# Altium schematic symbol library Schlib2.SchLib: 27 symbols
Pins are listed as number, name and electrical type; pins without a type are passive.

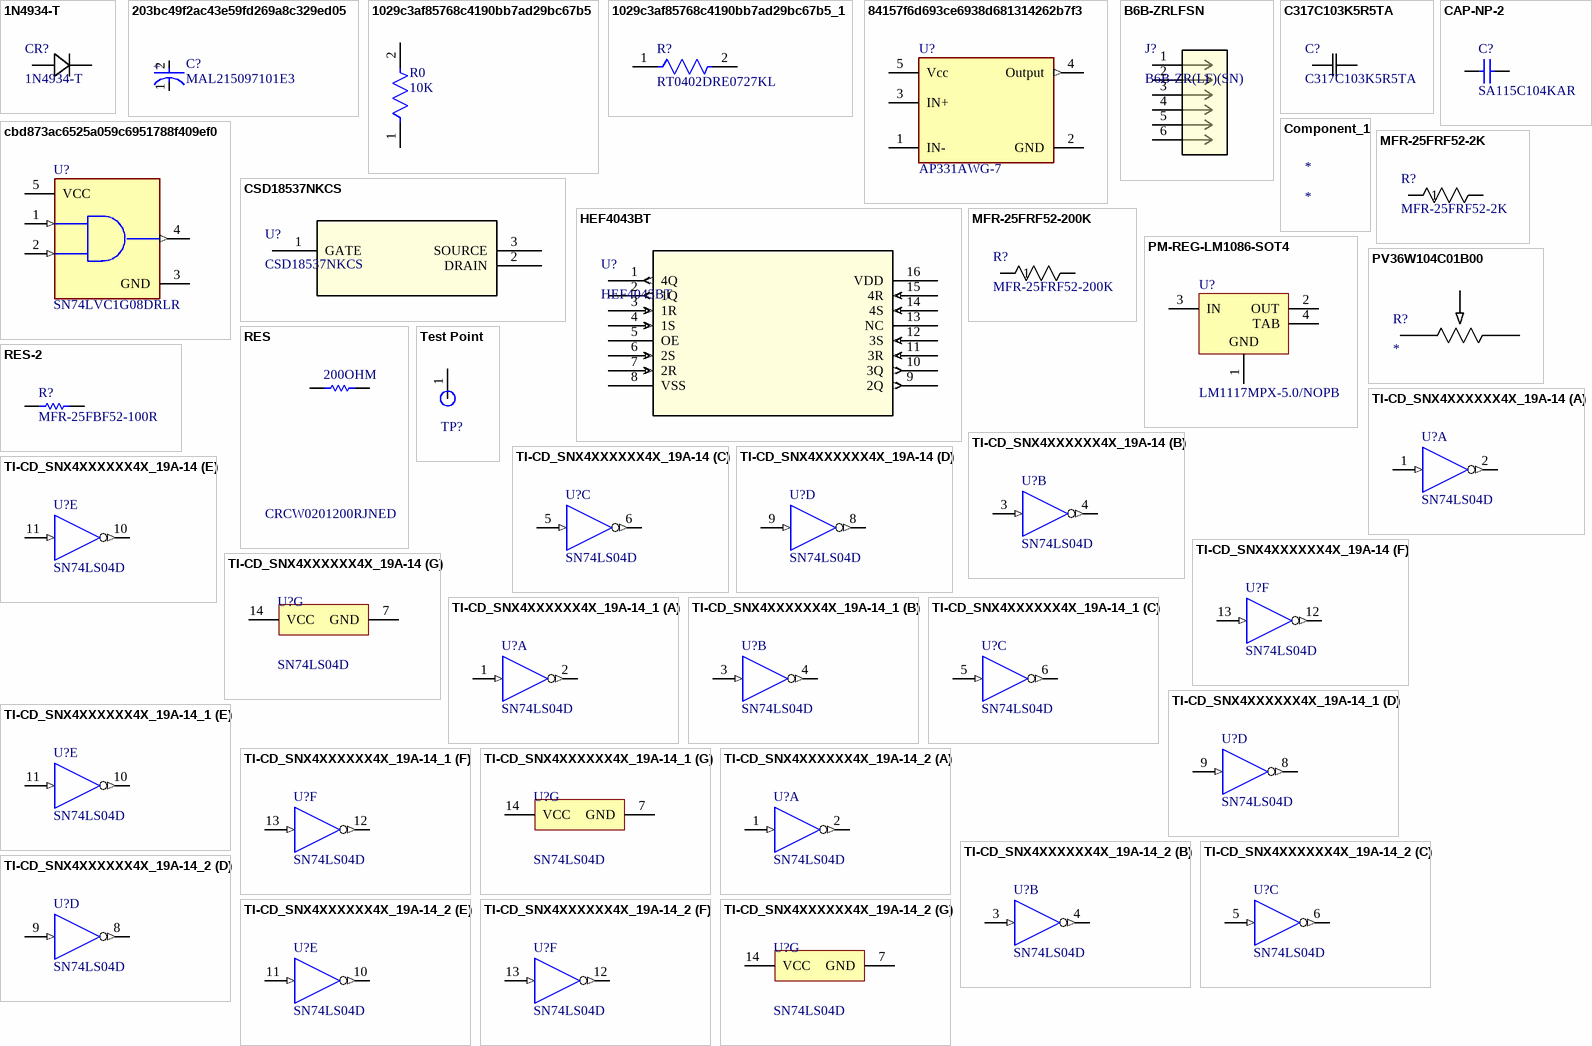
[diagram p0: symbols 1N4934-T to TI-CD_SNX4XXXXXX4X_19A-14_2]

## 1N4934-T
designator CR?
DIODE GEN PURP 100V 1A DO41; Mfr_Name: Diodes Inc; Type: DEV; Copyright: Copyright (C) 2023 Ultra Librarian. All rights reserved.; Manufacturer_Part_Number: 1N4934-T; Digi-Key_Part_Number_1: 1N4934DICT-ND; Digi-Key_Part_Number_2: 1N4934DITR-ND; RefDes: RefDes
footprint DO-41_DIO
pins: 1, 2

## 203bc49f2ac43e59fd269a8c329ed05
designator C?, comment MAL215097101E3
CAP ALUM 100UF 20% 50V SMD; Impedance: 240mR; Dissipation Factor: 0.12%; Ripple Current (AC): 490mA; Dielectric Material: Aluminium; Life (Hours): 3000Hour; Voltage Rating (DC): 50V; Capacitance: 100uF; Voltage Rating: 50V; Max Operating Temperature: 105°C; Width: 10mm; Construction: Cylindrical; ESR (Equivalent Series Resistance): 240mR; Radiation Hardening: No; Length: 10mm; Case/Package: Radial; Packaging: Tape and Reel; Min Operating Temperature: -55°C; Package Quantity: 500; RoHS Compliant: Yes; Series: Automotive, AEC-Q200, 150 CRZ; Ripple Current: 490mA; Height: 10mm; Tolerance: 20%; Diameter: 10mm; Termination: SMD/SMT
footprint FP-MAL2150-1010-MFG
pins: 1 C, 2 A
text: +

## 1029c3af85768c4190bb7ad29bc67b5
designator R0, comment 10K
RES 10K OHM 1% 0.6W AXIAL; Temperature Coefficient: 50ppm/°C; Resistance: 10kR; Mount: Through Hole; Radiation Hardening: No; Tolerance: 1%; Construction: Cylindrical; Contact Plating: Tin; Case/Package: Conformal; Resistor Type: Metal Film; Min Operating Temperature: -55°C; Military Standard: Not; Lead Free: Lead Free; Diameter: 2.4mm; Termination: Axial; Max Operating Temperature: 155°C; RoHS Compliant: Yes; Packaging: Ammo Pack; Length: 6.3mm
footprint FP-MF0207-MFG
pins: 1, 2

## 1029c3af85768c4190bb7ad29bc67b5_1
designator R?, comment RT0402DRE0727KL
RES SMD 27K OHM 0.5% 1/16W 0402; Manufacturer: Yageo; Temperature Coefficient: 50 ppm/°C; Power Rating: 0.063W; Description: RT0402 27KΩ 0.063W 50 ppm/°C 0.50%; Voltage Rating: 50V; Tolerance: 0.005; Resistance: 27KΩ; Value: 27KΩ; Temperature: -55°C to +155°C; ComponentLink2Description: Datasheet; Footprint Url: http://www.yageo.com/exep/pages/download/literatures/PYu-R_Mount_10.pdf; Composition: Thin Film; Manufacturer Part Number: RT0402DRE0727KL; Device Class L1: Passive Components; Octopart: https://octopart.com/rt0402dre0727kl-yageo-1275250; Device Class L2: Resistors; ComponentLink2URL: http://www.yageo.com/documents/recent/PYu-RT_1-to-0.01_RoHS_L_9.pdf; Category: Res; Temperature Range Low: -55°C; Temperature Range High: +155°C; Series: RT; RoHS: TRUE; Package: RT0402; Lead Free: Yes; Digikey Description: RES SMD 27K OHM 0.5% 1/16W 0402; Device Class L3: Chip SMD Resistors; Automotive: No; Height: 0.35mm; Ipc Land Pattern Name: RESC10050X30
footprint FP-RT0402-MFG
footprint FP-RT0402-IPC_C
footprint FP-RT0402-IPC_B
footprint FP-RT0402-IPC_A
pins: 1, 2

## 84157f6d693ce6938d681314262b7f3
designator U?, comment AP331AWG-7
IC COMPARATOR SGL DIFF SOT-25; Manufacturer: Diodes Inc.; Standoff Height: 0.013mm; Min Dual Supply Voltage: 1V; Input Offset Voltage: 4mV; Min Supply Voltage: 2V; Output Current Per Channel: 16mA; Number Of Channels: 1; Voltage Gain: 200V/mV; Max Supply Voltage: 36V; Input Bias Current: 0.15uA; Max Junction Temp: +150°C; Nominal Supply Current: 0.4-1mA; Max Dual Supply Voltage: 18V; Response Time: 300ns; Category: IC; Temperature Range High: +70°C; Automotive: No; Lead Free: Yes; Digikey Description: IC COMPARATOR SGL DIFF SOT-25; Ambient Temperature Range Low: 0°C; Octopart: https://octopart.com/ap331awg-7-diodes+inc.-12688108; Manufacturer Part Number: AP331AWG-7; Device Class L2: Linear ICs; RoHS: TRUE; Package: SOT25; ComponentLink2Description: Datasheet; Temperature: 0°C to +70°C; Height: 1.4mm; Device Class L3: Comparators; Temperature Range Low: 0°C; ComponentLink2URL: https://www.diodes.com/assets/Datasheets/AP331A.pdf; Device Class L1: Integrated Circuits (ICs); Mouser Description: Analog Comparators 2V-36V 2.5mA 2V-36V 2.5mA; Ambient Temperature Range High: +70°C; Footprint Url: https://www.diodes.com/assets/Package-Files/SOT25.pdf
footprint FP-SOT25-MFG
footprint FP-SOT25-IPC_C
footprint FP-SOT25-IPC_B
footprint FP-SOT25-IPC_A
pins: 1 IN- (hiz), 2 GND (power), 3 IN+ (hiz), 4 Output (out), 5 Vcc (power)

## B6B-ZRLFSN
designator J?, comment B6B-ZR(LF)(SN)
CONN HEADER VERT 6POS 1.5MM; Mfr_Name: JST; Copyright: Copyright (C) 2023 Ultra Librarian. All rights reserved.; Manufacturer_Part_Number: B6B-ZR(LF)(SN); Digi-Key_Part_Number_1: 455-1661-ND; RefDes: RefDes; Type: DEV
footprint CONN_B6B-ZR_JST
pins: 1, 2, 3, 4, 5, 6

## C317C103K5R5TA
designator C?
CAP CER 10000PF 50V X7R RADIAL; Mfr_Name: Kemet; Type: DEV; Copyright: Copyright (C) 2023 Ultra Librarian. All rights reserved.; Manufacturer_Part_Number: C317C103K5R5TA; Digi-Key_Part_Number_1: 399-4206-ND; RefDes: RefDes
footprint CAP_C317C_MR_X7R_KEM
pins: 1, 2

## CAP-NP-2
designator C?, comment SA115C104KAR
Axial Leads / SpinGuard(R), Ceramic Capacitor, 0.10 uF +/- 10%, 50V, -55 to 125 degC, 2-Pin THD, RoHS, Tape and Reel; Manufacturer: AVX; Other Names: 478-3151-1; Catalog Drawings: SASeries_4.32x3.05; Capacitance: 0.1µF; Temperature Coefficient: X7R; Online Catalog: SpinGuard®SASeries; Product Training Modules: ComponentSolutionsforSmartMeterApplications; Category: Capacitors; Package Description: 2-Pin Axial Lead, Dia 3.05 mm, Body Length 4.32 mm; Standard Package: 1; Mounting Technology: ThroughHole; Ratings: -; Datasheet Version: 06/2007; Voltage - Rated: 50V; Tolerance: ±10%; Package Reference: SA115C104KAR; Packaging: -; Lead Style: -; Size / Dimension: 0.120"Diax0.170"L(3.05mmx4.32mm); Mounting Type: ThroughHole; Operating Temperature: -55°C~125°C; Datasheet URL: https://datasheet.ciiva.com/27051/1074183-27051369.pdf; Applications: GeneralPurpose; Thickness (Max): -; Lead Spacing: -; Height - Seated (Max): -; Family: CeramicCapacitors; Package / Case: Axial; Features: -; Series: SpinGuard®SA; Manufacturer URL: http://www.avx.com/
footprint AVX-SA115C104KAR (THD, 2-Leads, Dia 3.05mm, Body Length 4.32mm)
pins: 1, 2

## cbd873ac6525a059c6951788f409ef0
designator U?, comment SN74LVC1G08DRLR
IC GATE AND 1CH 2-INP SOT5; Manufacturer: Texas Instruments; Number Of Inputs: 2; Nominal Supply Current: 10uA; Max Junction Temp: +150°C; Max Supply Voltage: 5.5V; Number Of Circuits: 1; Min Supply Voltage: 1.65V; Propagation Delay: 5ns; Standoff Height: 0mm; ComponentLink2Description: Datasheet; Device Class L1: Integrated Circuits (ICs); Temperature: -40°C to +125°C; Ambient Temperature Range Low: -40°C; Digikey Description: IC GATE AND 1CH 2-INP SOT5; RoHS: TRUE; Device Class L2: Logic ICs; Height: 0.6mm; Logic Function Desc: AND; Package: DRL0005A; Manufacturer Part Number: SN74LVC1G08DRLR; Lead Free: Yes; Category: IC; ComponentLink2URL: http://www.ti.com/lit/ds/symlink/sn74lvc1g08.pdf; Mouser Description: Logic Gates Sngl 2 Inpt Pos AND Gate; Octopart: https://octopart.com/sn74lvc1g08drlr-texas+instruments-464956; Device Class L3: Logic Gates; Number Of Outputs: 1; Automotive: No; Ambient Temperature Range High: +125°C; Temperature Range High: +125°C; Temperature Range Low: -40°C
footprint FP-DRL0005A-MFG
pins: 1 A (in), 2 B (in), 3 GND (power), 4 Y (out), 5 VCC (power)

## Component_1
designator *

## CSD18537NKCS
designator U?
No Description Available; Mfr_Name: Texas Instruments; Copyright: Copyright (C) 2023 Ultra Librarian. All rights reserved.; Manufacturer_Part_Number: CSD18537NKCS; Digi-Key_Part_Number_1: 296-36456-5-ND; Digi-Key_Part_Number_2: 296-36456-5-NDR; Digi-Key_Part_Number_3: 296-CSD18537NKCS-ND; RefDes: RefDes; Type: DEV
footprint KCS3_TEX
pins: 1 GATE, 2 DRAIN, 3 SOURCE

## HEF4043BT
designator U?
IC R/S LATCH 3-STATE QUAD 16SOIC; Mfr_Name: NXP; Copyright: Copyright (C) 2023 Ultra Librarian. All rights reserved.; Manufacturer_Part_Number: HEF4043BT; Digi-Key_Part_Number_1: 568-11395-2-ND; Digi-Key_Part_Number_2: 568-11395-1-ND; Digi-Key_Part_Number_3: 568-11395-6-ND; Digi-Key_Part_Number_4: 568-11333-5-ND; RefDes: RefDes; Type: DEV
footprint SOT109-1_NXP
pins: 1 4Q (out), 2 1Q (out), 3 1R (in), 4 1S (in), 5 OE, 6 2S (in), 7 2R (in), 8 VSS (power), 9 2Q (out), 10 3Q (out), 11 3R (in), 12 3S (in), 13 NC, 14 4S (in), 15 4R (in), 16 VDD (power)

## MFR-25FRF52-2K
designator R?
No Description Available; Mfr_Name: Yageo; Copyright: Copyright (C) 2023 Ultra Librarian. All rights reserved.; Manufacturer_Part_Number: MFR-25FRF52-2K; Digi-Key_Part_Number_1: 2.00KXTR-ND; RefDes: RefDes; Type: DEV
footprint YAG_MF25_YAG
pins: 1, 2

## MFR-25FRF52-200K
designator R?
RES 200K OHM 1% 1/4W AXIAL; Mfr_Name: Yageo; Copyright: Copyright (C) 2023 Ultra Librarian. All rights reserved.; Manufacturer_Part_Number: MFR-25FRF52-200K; Digi-Key_Part_Number_1: 200KXTR-ND; RefDes: RefDes; Type: DEV
footprint YAG_MF25_YAG
pins: 1, 2

## PM-REG-LM1086-SOT4
designator U?, comment LM1117MPX-5.0/NOPB
800mA Low-Dropout Linear Regulator, 4-pin SOT-223, Pb-Free; Manufacturer: Texas Instruments; PowerWise: N; High-Reliability: Y; PackageTopMarking: XYTT*N06A; CompType: LDO IC; PartNumber: LM1117MPX-5.0/NOPB; Code_JEDEC: TO-261-AA; Code_IPC: SOT223-4; ComponentLink1URL: http://www.ti.com/general/docs/lit/getliterature.tsp?genericPartNumber=LM1117-N&fileType=pdf; PinCount: 4; PackageReference: DCY0004A; ComponentLink1Description: Datasheet URL; PackageDescription: Molded SOT-223, 6.50 x 3.56 x 1.6mm Body, 4 Lead, 2.3mm Pitch; RoHS: Y
footprint DCY0004A_L (SOT223, 4-Leads, Body 6.7x3.7mm, Pitch 2.3mm, IPC High Density)
footprint DCY0004A_M (SOT223, 4-Leads, Body 6.7x3.7mm, Pitch 2.3mm, IPC Low Density)
footprint DCY0004A_N (SOT223, 4-Leads, Body 6.7x3.7mm, Pitch 2.3mm, IPC Medium Density)
pins: 1 GND (power), 2 OUT (power), 3 IN (power), 4 TAB (power)

## PV36W104C01B00
designator R?
TRIMMER 100K OHM 0.5W PC PIN TOP; Mfr_Name: Bourns Electronics; Type: Trimmer Potentiometers; Digi-Key_Part_Number_1: 490-2876-ND
footprint POT_PV36W_BRN
pins: 1, 2, 3

## RES
designator 200OHM, comment CRCW0201200RJNED
Manufacturer: Vishay Dale; Part Number: CRCW0201200RJNED
footprint RESC0603X28X15ML05T05 (Chip Resistor, 2-Leads, Body 0.60x0.30mm, IPC Low Density)
footprint RESC0603X28X15NL05T05 (Chip Resistor, 2-Leads, Body 0.60x0.30mm, IPC Medium Density)
footprint RESC0603X28X15LL05T05 (Chip Resistor, 2-Leads, Body 0.60x0.30mm, IPC High Density)
pins: 1, 2
1 alternate drawing of the same symbol

## RES-2
designator R?, comment MFR-25FBF52-100R
Axial Resistor, 100 Ohm, +/- 1%, 0.25 W, -55 to 155 degC, 2-Pin THD, RoHS, Bulk; Voltage Rating: 250 V; Resistance: 4.75 kohm; Power Rating: 250 mW; Type (Resistor): Metal Film; Package Quantity: 200; RoHSCompliant: true; ComponentLink1URL: http://www.yageo.com/; ComponentLink1Description: Manufacturer URL; Case\Package: Axial; ComponentLink2Description: Datasheet; Length: 0.248 inch; PackageReference: MFR-25; Max Operating Temperature: 155 degC; Min Operating Temperature: -55 degC; DatasheetVersion: Apr-13; Mount: Through Hole; PackageDescription: 2-Pin Axial Lead, Dia 2.4 mm, Body Length 6.3 mm; Packaging: Bulk; Tolerance: 1%; ComponentLink2URL: http://www.yageo.com/documents/recent/Yageo%20LR_MFR_2013.pdf
footprint RESA60-630X240 (Axial Resistor, 2-Leads, Dia 2.4mm, Body Length 6.3mm)
pins: 1, 2

## Test Point
designator TP?  (value not drawn)  (no BOM)
footprint TP1 (60 mil radius test point)
pins: 1

## TI-CD_SNX4XXXXXX4X_19A-14
designator U?, comment SN74LS04D
Hex inverters, D0014A, TUBE; Manufacturer: Texas Instruments; Schmitt Trigger: No; Input Type: TTL; Bits(#): 6; Voltage(Nom)(V): 5; VCC(Max)(V): 5.25; Output Drive (IOL/IOH)(Max)(mA): -0.4/8; Technology Family: LS; tpd @ Nom Voltage(Max)(ns): 22; Output Type: CMOS; F @ Nom Voltage(Max)(Mhz): 35; Rating: Catalog; VCC(Min)(V): 4.75; ICC @ Nom Voltage(Max)(mA): 0.033; Generic Part Number: SN74LS04; DatasheetVersion: SDLS029C; PackageReference: D0014A; Code_JEDEC: MS-012; Operating Temperature Range(C): 0 to 70
footprint D0014A_N (SOIC, 14-Leads, Body 8.75x4mm, Pitch 1.27mm, IPC Medium Density)
footprint D0014A_L (SOIC, 14-Leads, Body 8.75x4mm, Pitch 1.27mm, IPC High Density)
footprint D0014A_M (SOIC, 14-Leads, Body 8.75x4mm, Pitch 1.27mm, IPC Low Density)
part A pins: 1 1A (in) "Input 1A", 2 ~{1Y} (out) "Output 1Y"
part B pins: 3 2A (in) "Input 2A", 4 ~{2Y} (out) "Output 2Y"
part C pins: 5 3A (in) "Input 3A", 6 ~{3Y} (out) "Output 3Y"
part D pins: 8 ~{4Y} (out) "Output 4Y", 9 4A (in) "Input 4A"
part E pins: 10 ~{5Y} (out) "Output 5Y", 11 5A (in) "Input 5A"
part F pins: 12 ~{6Y} (out) "Output 6Y", 13 6A (in) "Input 6A"
part G pins: 7 GND (power) "Ground Pin", 14 VCC (power) "Power Pin"

## TI-CD_SNX4XXXXXX4X_19A-14_1
designator U?, comment SN74LS04D
Hex inverters, D0014A, TUBE; Manufacturer: Texas Instruments; Schmitt Trigger: No; Input Type: TTL; Bits(#): 6; Voltage(Nom)(V): 5; VCC(Max)(V): 5.25; Output Drive (IOL/IOH)(Max)(mA): -0.4/8; Technology Family: LS; tpd @ Nom Voltage(Max)(ns): 22; Output Type: CMOS; F @ Nom Voltage(Max)(Mhz): 35; Rating: Catalog; VCC(Min)(V): 4.75; ICC @ Nom Voltage(Max)(mA): 0.033; Generic Part Number: SN74LS04; DatasheetVersion: SDLS029C; PackageReference: D0014A; Code_JEDEC: MS-012; Operating Temperature Range(C): 0 to 70
footprint D0014A_N (SOIC, 14-Leads, Body 8.75x4mm, Pitch 1.27mm, IPC Medium Density)
footprint D0014A_L (SOIC, 14-Leads, Body 8.75x4mm, Pitch 1.27mm, IPC High Density)
footprint D0014A_M (SOIC, 14-Leads, Body 8.75x4mm, Pitch 1.27mm, IPC Low Density)
part A pins: 1 1A (in) "Input 1A", 2 ~{1Y} (out) "Output 1Y"
part B pins: 3 2A (in) "Input 2A", 4 ~{2Y} (out) "Output 2Y"
part C pins: 5 3A (in) "Input 3A", 6 ~{3Y} (out) "Output 3Y"
part D pins: 8 ~{4Y} (out) "Output 4Y", 9 4A (in) "Input 4A"
part E pins: 10 ~{5Y} (out) "Output 5Y", 11 5A (in) "Input 5A"
part F pins: 12 ~{6Y} (out) "Output 6Y", 13 6A (in) "Input 6A"
part G pins: 7 GND (power) "Ground Pin", 14 VCC (power) "Power Pin"

## TI-CD_SNX4XXXXXX4X_19A-14_2
designator U?, comment SN74LS04D
Hex inverters, D0014A, TUBE; Manufacturer: Texas Instruments; Schmitt Trigger: No; Input Type: TTL; Bits(#): 6; Voltage(Nom)(V): 5; VCC(Max)(V): 5.25; Output Drive (IOL/IOH)(Max)(mA): -0.4/8; Technology Family: LS; tpd @ Nom Voltage(Max)(ns): 22; Output Type: CMOS; F @ Nom Voltage(Max)(Mhz): 35; Rating: Catalog; VCC(Min)(V): 4.75; ICC @ Nom Voltage(Max)(mA): 0.033; Generic Part Number: SN74LS04; DatasheetVersion: SDLS029C; PackageReference: D0014A; Code_JEDEC: MS-012; Operating Temperature Range(C): 0 to 70
footprint D0014A_N (SOIC, 14-Leads, Body 8.75x4mm, Pitch 1.27mm, IPC Medium Density)
footprint D0014A_L (SOIC, 14-Leads, Body 8.75x4mm, Pitch 1.27mm, IPC High Density)
footprint D0014A_M (SOIC, 14-Leads, Body 8.75x4mm, Pitch 1.27mm, IPC Low Density)
part A pins: 1 1A (in) "Input 1A", 2 ~{1Y} (out) "Output 1Y"
part B pins: 3 2A (in) "Input 2A", 4 ~{2Y} (out) "Output 2Y"
part C pins: 5 3A (in) "Input 3A", 6 ~{3Y} (out) "Output 3Y"
part D pins: 8 ~{4Y} (out) "Output 4Y", 9 4A (in) "Input 4A"
part E pins: 10 ~{5Y} (out) "Output 5Y", 11 5A (in) "Input 5A"
part F pins: 12 ~{6Y} (out) "Output 6Y", 13 6A (in) "Input 6A"
part G pins: 7 GND (power) "Ground Pin", 14 VCC (power) "Power Pin"

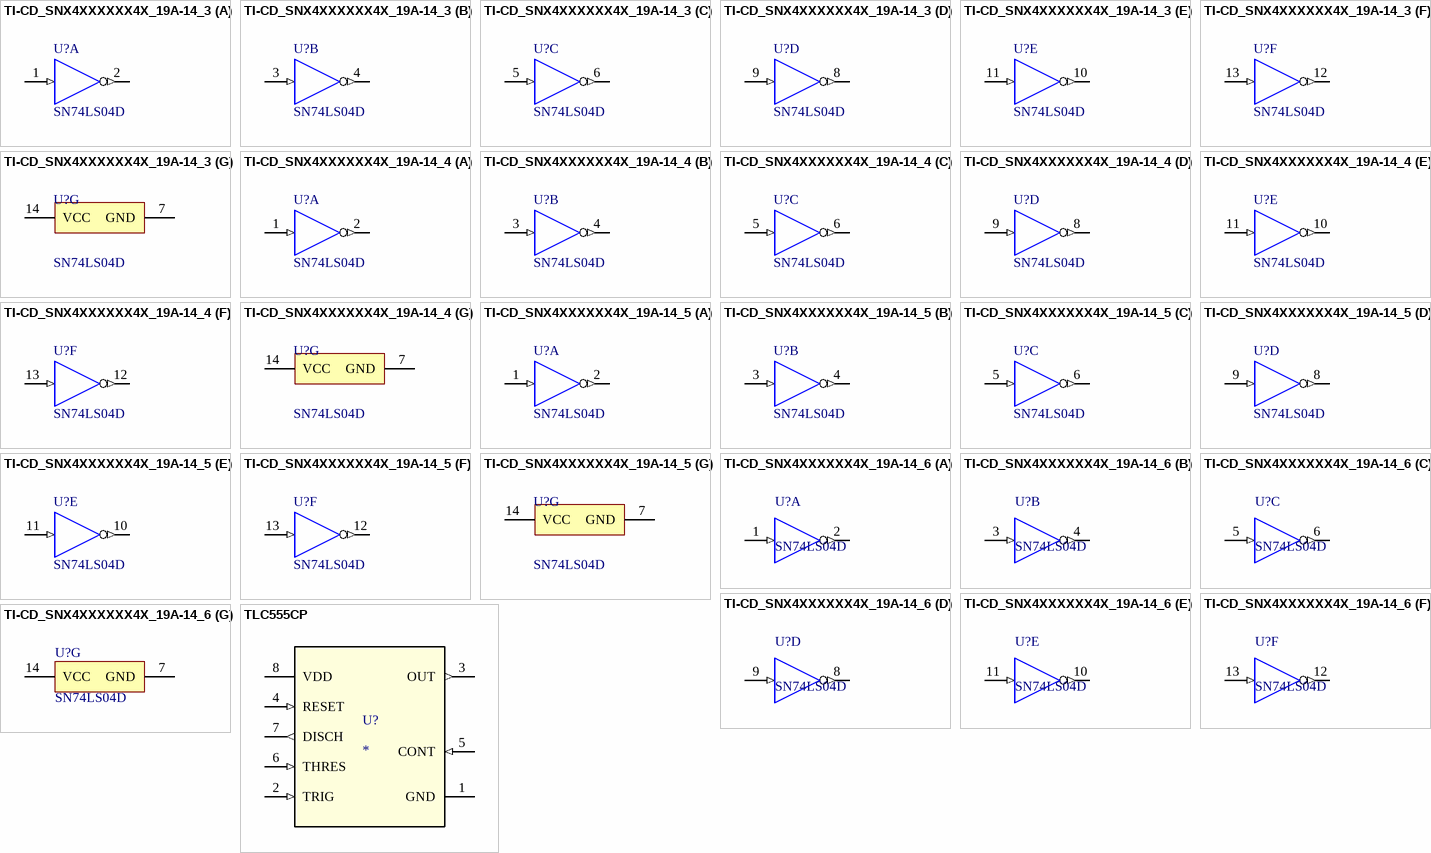
[diagram p1: symbols TI-CD_SNX4XXXXXX4X_19A-14_3 to TLC555CP]

## TI-CD_SNX4XXXXXX4X_19A-14_3
designator U?, comment SN74LS04D
Hex inverters, D0014A, TUBE; Manufacturer: Texas Instruments; Schmitt Trigger: No; Input Type: TTL; Bits(#): 6; Voltage(Nom)(V): 5; VCC(Max)(V): 5.25; Output Drive (IOL/IOH)(Max)(mA): -0.4/8; Technology Family: LS; tpd @ Nom Voltage(Max)(ns): 22; Output Type: CMOS; F @ Nom Voltage(Max)(Mhz): 35; Rating: Catalog; VCC(Min)(V): 4.75; ICC @ Nom Voltage(Max)(mA): 0.033; Generic Part Number: SN74LS04; DatasheetVersion: SDLS029C; PackageReference: D0014A; Code_JEDEC: MS-012; Operating Temperature Range(C): 0 to 70
footprint D0014A_N (SOIC, 14-Leads, Body 8.75x4mm, Pitch 1.27mm, IPC Medium Density)
footprint D0014A_L (SOIC, 14-Leads, Body 8.75x4mm, Pitch 1.27mm, IPC High Density)
footprint D0014A_M (SOIC, 14-Leads, Body 8.75x4mm, Pitch 1.27mm, IPC Low Density)
part A pins: 1 1A (in) "Input 1A", 2 ~{1Y} (out) "Output 1Y"
part B pins: 3 2A (in) "Input 2A", 4 ~{2Y} (out) "Output 2Y"
part C pins: 5 3A (in) "Input 3A", 6 ~{3Y} (out) "Output 3Y"
part D pins: 8 ~{4Y} (out) "Output 4Y", 9 4A (in) "Input 4A"
part E pins: 10 ~{5Y} (out) "Output 5Y", 11 5A (in) "Input 5A"
part F pins: 12 ~{6Y} (out) "Output 6Y", 13 6A (in) "Input 6A"
part G pins: 7 GND (power) "Ground Pin", 14 VCC (power) "Power Pin"

## TI-CD_SNX4XXXXXX4X_19A-14_4
designator U?, comment SN74LS04D
Hex inverters, D0014A, TUBE; Manufacturer: Texas Instruments; Schmitt Trigger: No; Input Type: TTL; Bits(#): 6; Voltage(Nom)(V): 5; VCC(Max)(V): 5.25; Output Drive (IOL/IOH)(Max)(mA): -0.4/8; Technology Family: LS; tpd @ Nom Voltage(Max)(ns): 22; Output Type: CMOS; F @ Nom Voltage(Max)(Mhz): 35; Rating: Catalog; VCC(Min)(V): 4.75; ICC @ Nom Voltage(Max)(mA): 0.033; Generic Part Number: SN74LS04; DatasheetVersion: SDLS029C; PackageReference: D0014A; Code_JEDEC: MS-012; Operating Temperature Range(C): 0 to 70
footprint D0014A_N (SOIC, 14-Leads, Body 8.75x4mm, Pitch 1.27mm, IPC Medium Density)
footprint D0014A_L (SOIC, 14-Leads, Body 8.75x4mm, Pitch 1.27mm, IPC High Density)
footprint D0014A_M (SOIC, 14-Leads, Body 8.75x4mm, Pitch 1.27mm, IPC Low Density)
part A pins: 1 1A (in) "Input 1A", 2 ~{1Y} (out) "Output 1Y"
part B pins: 3 2A (in) "Input 2A", 4 ~{2Y} (out) "Output 2Y"
part C pins: 5 3A (in) "Input 3A", 6 ~{3Y} (out) "Output 3Y"
part D pins: 8 ~{4Y} (out) "Output 4Y", 9 4A (in) "Input 4A"
part E pins: 10 ~{5Y} (out) "Output 5Y", 11 5A (in) "Input 5A"
part F pins: 12 ~{6Y} (out) "Output 6Y", 13 6A (in) "Input 6A"
part G pins: 7 GND (power) "Ground Pin", 14 VCC (power) "Power Pin"

## TI-CD_SNX4XXXXXX4X_19A-14_5
designator U?, comment SN74LS04D
Hex inverters, D0014A, TUBE; Manufacturer: Texas Instruments; Schmitt Trigger: No; Input Type: TTL; Bits(#): 6; Voltage(Nom)(V): 5; VCC(Max)(V): 5.25; Output Drive (IOL/IOH)(Max)(mA): -0.4/8; Technology Family: LS; tpd @ Nom Voltage(Max)(ns): 22; Output Type: CMOS; F @ Nom Voltage(Max)(Mhz): 35; Rating: Catalog; VCC(Min)(V): 4.75; ICC @ Nom Voltage(Max)(mA): 0.033; Generic Part Number: SN74LS04; DatasheetVersion: SDLS029C; PackageReference: D0014A; Code_JEDEC: MS-012; Operating Temperature Range(C): 0 to 70
footprint D0014A_N (SOIC, 14-Leads, Body 8.75x4mm, Pitch 1.27mm, IPC Medium Density)
footprint D0014A_L (SOIC, 14-Leads, Body 8.75x4mm, Pitch 1.27mm, IPC High Density)
footprint D0014A_M (SOIC, 14-Leads, Body 8.75x4mm, Pitch 1.27mm, IPC Low Density)
part A pins: 1 1A (in) "Input 1A", 2 ~{1Y} (out) "Output 1Y"
part B pins: 3 2A (in) "Input 2A", 4 ~{2Y} (out) "Output 2Y"
part C pins: 5 3A (in) "Input 3A", 6 ~{3Y} (out) "Output 3Y"
part D pins: 8 ~{4Y} (out) "Output 4Y", 9 4A (in) "Input 4A"
part E pins: 10 ~{5Y} (out) "Output 5Y", 11 5A (in) "Input 5A"
part F pins: 12 ~{6Y} (out) "Output 6Y", 13 6A (in) "Input 6A"
part G pins: 7 GND (power) "Ground Pin", 14 VCC (power) "Power Pin"

## TI-CD_SNX4XXXXXX4X_19A-14_6
designator U?, comment SN74LS04D
Hex inverters, D0014A, TUBE; Manufacturer: Texas Instruments; Schmitt Trigger: No; Input Type: TTL; Bits(#): 6; Voltage(Nom)(V): 5; VCC(Max)(V): 5.25; Output Drive (IOL/IOH)(Max)(mA): -0.4/8; Technology Family: LS; tpd @ Nom Voltage(Max)(ns): 22; Output Type: CMOS; F @ Nom Voltage(Max)(Mhz): 35; Rating: Catalog; VCC(Min)(V): 4.75; ICC @ Nom Voltage(Max)(mA): 0.033; Generic Part Number: SN74LS04; DatasheetVersion: SDLS029C; PackageReference: D0014A; Code_JEDEC: MS-012; Operating Temperature Range(C): 0 to 70
footprint D0014A_N (SOIC, 14-Leads, Body 8.75x4mm, Pitch 1.27mm, IPC Medium Density)
footprint D0014A_L (SOIC, 14-Leads, Body 8.75x4mm, Pitch 1.27mm, IPC High Density)
footprint D0014A_M (SOIC, 14-Leads, Body 8.75x4mm, Pitch 1.27mm, IPC Low Density)
part A pins: 1 1A (in) "Input 1A", 2 ~{1Y} (out) "Output 1Y"
part B pins: 3 2A (in) "Input 2A", 4 ~{2Y} (out) "Output 2Y"
part C pins: 5 3A (in) "Input 3A", 6 ~{3Y} (out) "Output 3Y"
part D pins: 8 ~{4Y} (out) "Output 4Y", 9 4A (in) "Input 4A"
part E pins: 10 ~{5Y} (out) "Output 5Y", 11 5A (in) "Input 5A"
part F pins: 12 ~{6Y} (out) "Output 6Y", 13 6A (in) "Input 6A"
part G pins: 7 GND (power) "Ground Pin", 14 VCC (power) "Power Pin"

## TLC555CP
designator U?
IC OSC SINGLE TIMER 2.1MHZ 8-DIP; Mfr_Name: Texas Instruments; TYPE: TYPE; RefDes: RefDes; Digi-Key_Part_Number_2: 2156-TLC555CP-ND; Digi-Key_Part_Number_1: 296-1857-5-ND
footprint P0008A
pins: 1 GND (power), 2 TRIG (in), 3 OUT (out), 4 RESET (in), 5 CONT (in), 6 THRES (in), 7 DISCH (out), 8 VDD (power)